# EAGLE library part RELAY-HLS-14F3L-DC12V-C(8P-29.2X12.4MM) (library Relay-Songle)
315990002
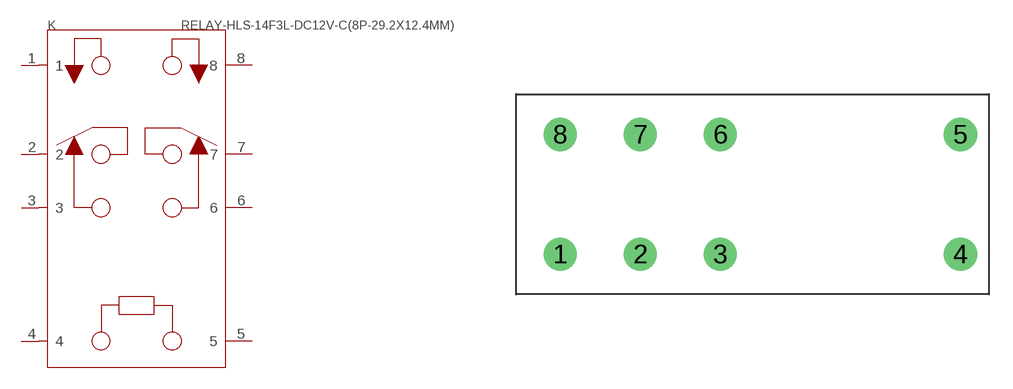
[diagram p0: symbol with the pads of REY8-29.2X12.4X20.4MM; footprint REY8-29.2X12.4X20.4MM]

Designator prefix K

## RELAY-HLS-14F3L-DC12V-C(8P-29.2X12.4MM) (MPN: HLS-14F3L-DC12V-C; VALUE: HLS-14F3L-DC12V-C)  [REY8-29.2X12.4X20.4MM]
1  1
2  2
3  3
4  4
5  5
6  6
7  7
8  8

## Footprint REY8-29.2X12.4X20.4MM (pad centres in mm)
drill 1.3 pad 2.1: 1 -11.684,-3.81; 2 -6.604,-3.81; 3 -1.524,-3.81; 4 13.716,-3.81; 5 13.716,3.79; 6 -1.524,3.79; 7 -6.604,3.79; 8 -11.684,3.79